# Altium footprint library ROBOCAM_1.PcbLib: 116 footprints (part 7 of 8)
Each footprint in its own frame and in the unit in brackets; x right, y up, seen from the top. Pads: shape width x height; smd on the part's side, far side on the other; paste and mask are expansions set on the pad; w line width, h text height; cw(c..) or ccw(c..) is an arc to the next point about the centre after c.
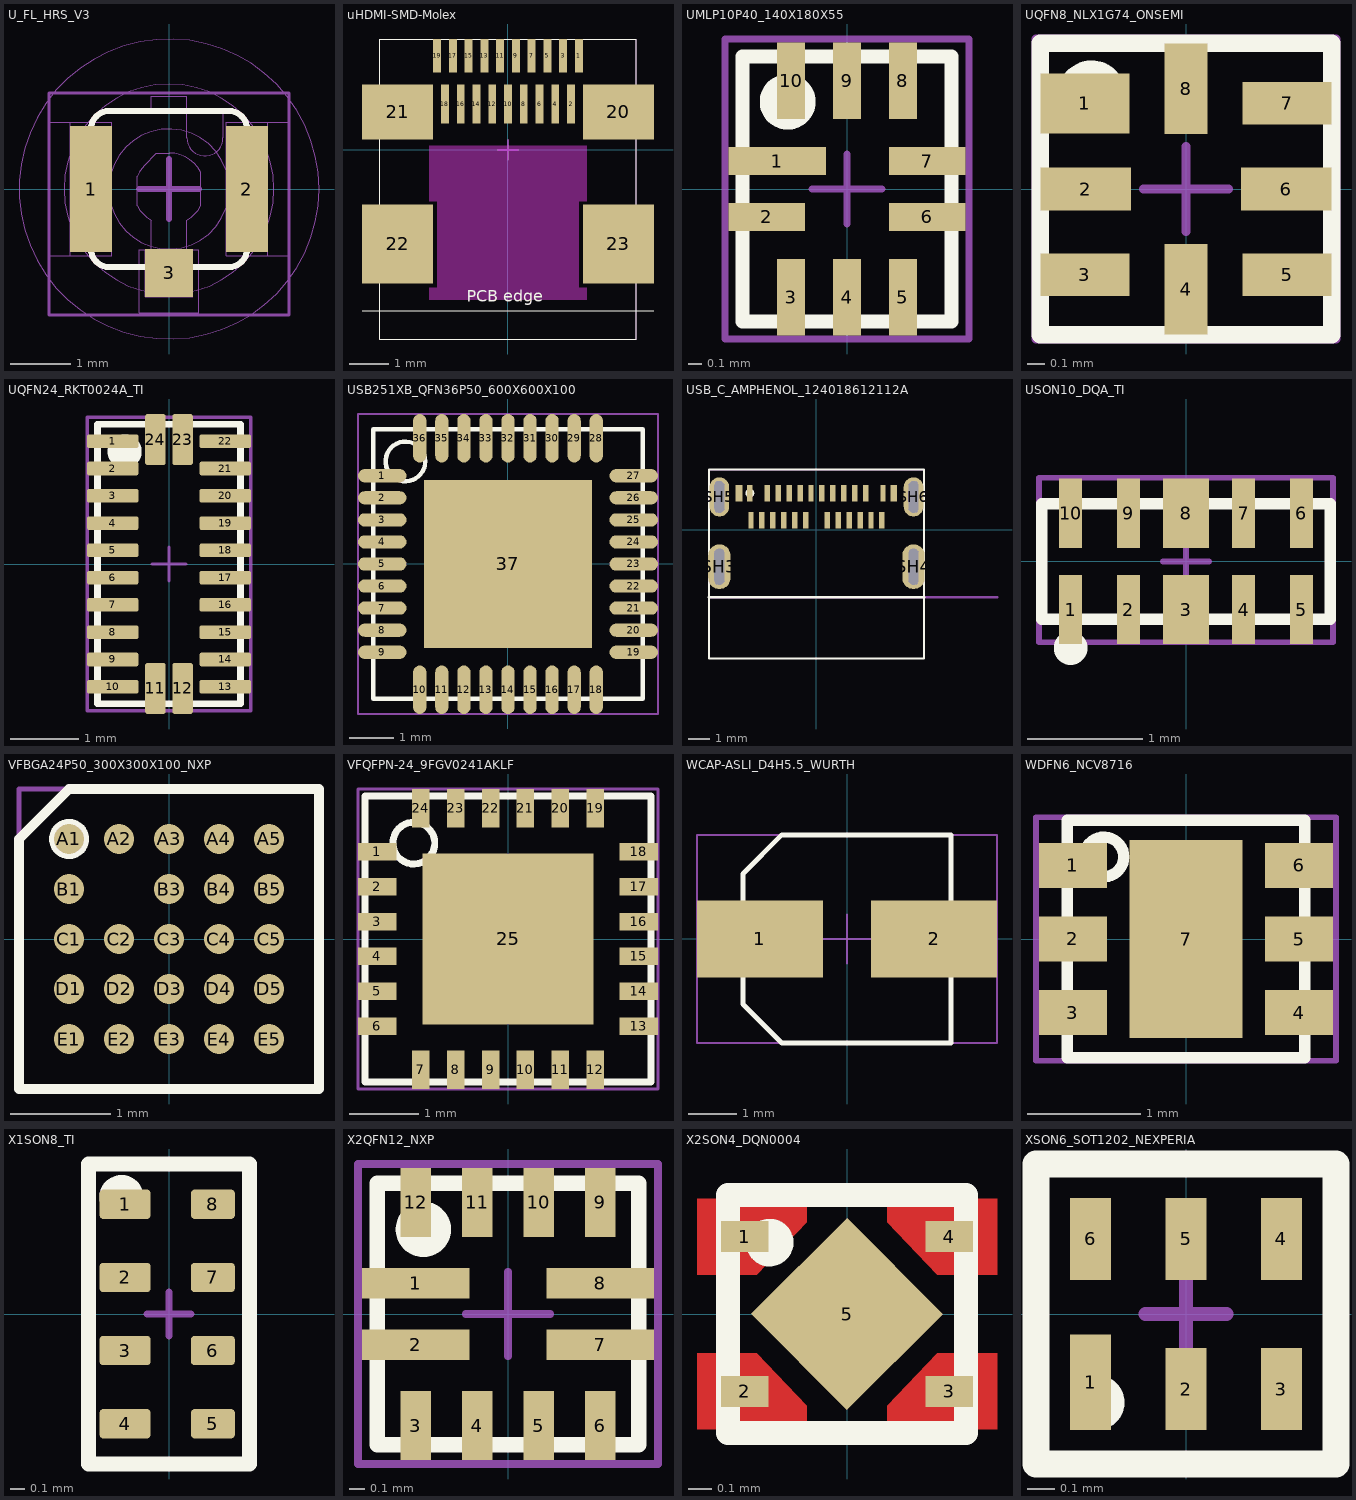
[diagram p6: the footprints below, top view; thin cyan lines are the x and y axes]

## U_FL_HRS_V3 [mm] "SMD, 3-Leads, Body 2.6x2.6mm"
height 1.25
pads (3):
  rect 0.7x2.1 smd mask+0.07: 1(-1.3,0)
  rect 0.7x2.1 smd: 2(1.3,0)
  rect 0.8x0.8 smd: 3(0,-1.4)
Top Overlay:
  lines w0.1: -1.3,-1 ccw(c-1,-1) -1,-1.3 1,-1.3 ccw(c1,-1) 1.3,-1 ; -1.3,0.95 -1.55,0.95 -1.55,-0.95 -1.3,-0.95 -1.3,1 cw(c-1,1) -1,1.3 1,1.3 cw(c1,1) 1.3,1 1.3,-0.95 1.55,-0.95 1.55,0.95 1.3,0.95 ; -0.3,-1.6 0.3,-1.6 0.3,-1.3 -0.3,-1.3 -0.3,-1.6
Mechanical 4:
  circle w0.01: c0,0 r2.5
  circle w0.02: c0,0 r1.75
  circle w0.02: c0,0 r1
  lines w0.02: -0.3,1.3 -0.3,1.55 0.3,1.55 0.3,1.3 ; -0.1,0 0.1,0 ; 0,-0.1 0,0.1 ; -1.3,-1 ccw(c-1,-1) -1,-1.3 ; -1.3,-1 ccw(c-1,-1) -1,-1.3 ; -1.3,-1 -1.3,-0.9 ; -1.3,-1 -1.3,-0.9 ; -1.3,-0.9 -1.5,-0.9 -1.5,0.9 -1.3,0.9 ; -1.3,-0.9 -1.2,-0.9 ccw(c-1.2,-0.75) -1.05,-0.75 -1.05,0.75 ccw(c-1.2,0.75) -1.2,0.9 -1.3,0.9 ; -1.3,0.9 -1.3,1 ; -1.3,0.9 -1.3,1 ; -1.3,1 cw(c-1,1) -1,1.3 ; -1.3,1 cw(c-1,1) -1,1.3 ; -1,-1.3 -0.3,-1.3 ; -1,-1.3 -0.3,-1.3 ; -1,1.3 1,1.3 ; -1,1.3 0.3,1.3 ; -0.95,-1.11 -2,-1.11 -2,1.11 -0.95,1.11 ; -0.95,-1.11 -1.65,-1.11 -1.65,1.1 -0.95,1.11 ; -0.95,-1.11 -0.95,1.11 ; -0.95,-1.11 -0.95,1.11 ; -0.3,-1.3 -0.3,-1.55 0.3,-1.55 0.3,-1.3 ; -0.3,-1.3 -0.3,-0.52 cw(c0,0) -0.53,-0.281 -0.53,0.21 cw(c0,0) -0.407,0.399 -0.21,0.6 0,0.6 cw(c0,0) 0.53,0.281 0.53,-0.281 cw(c0,0) 0.3,-0.52 0.3,-1.3 ; 0.3,-1.3 1,-1.3 ; 0.3,-1.3 1,-1.3 ; 0.3,1.3 0.3,0.85 ccw(c0.6,0.85) 0.9,0.85 0.9,1.3 1,1.3 ; 0.95,-1.11 0.95,1.11 ; 0.95,-1.11 0.95,1.11 ; 0.95,-1.11 1.65,-1.11 1.65,1.1 0.95,1.11 ; 0.95,-1.11 2,-1.11 2,1.11 0.95,1.11 ; 1,-1.3 ccw(c1,-1) 1.3,-1 ; 1,-1.3 ccw(c1,-1) 1.3,-1 ; 1,1.3 cw(c1,1) 1.3,1 ; 1,1.3 cw(c1,1) 1.3,1 ; 1.3,-1 1.3,-0.9 ; 1.3,-1 1.3,-0.9 ; 1.3,-0.9 1.5,-0.9 1.5,0.9 1.3,0.9 ; 1.3,-0.9 1.2,-0.9 cw(c1.2,-0.75) 1.05,-0.75 1.05,0.75 cw(c1.2,0.75) 1.2,0.9 1.3,0.9 ; 1.3,0.9 1.3,1 ; 1.3,0.9 1.3,1 ; -0.5,-2.06 -0.5,-1.01 0.5,-1.01 0.5,-2.06 -0.5,-2.06 ; -0.4,-1.8 -0.4,-1.01 0.4,-1.01 0.4,-1.8 -0.4,-1.8
  text "Open as many layers as possible." at -0.7,0.219 h0.1
Top Courtyard:
  lines w0.05: -2,-2.1 -2,1.6 2,1.6 2,-2.1 -2,-2.1
  lines w0.1: -0.5,0 0.5,0 ; 0,-0.5 0,0.5
Top Designator:
  text ".Designator" at -7.618,-0.508 h1.52
3D body "U_FL-R-SMT-1.stp": height 1.3, standoff 0.05, extent -1.499,-1.55 1.501,1.55

## uHDMI-SMD-Molex [mm] "Micro-HDMI connector, surface mount"
height 2.9
pads (23):
  rect 0.2x0.85 smd paste+0 mask+0.05: 1(1.8,2.388) 3(1.4,2.388) 5(1,2.388) 7(0.6,2.388) 9(0.2,2.388) 11(-0.2,2.388) 13(-0.6,2.388) 15(-1,2.388) 17(-1.4,2.388) 19(-1.8,2.388)
  rect 0.2x1 smd paste+0 mask+0.05: 2(1.6,1.163) 4(1.2,1.163) 6(0.8,1.163) 8(0.4,1.163) 10(0,1.163) 12(-0.4,1.163) 14(-0.8,1.163) 16(-1.2,1.163) 18(-1.6,1.163)
  rect 1.8x1.4 smd paste-0.1 mask+0.05: 20(2.8,0.963) 21(-2.8,0.963)
  rect 1.8x2 smd paste-0.1 mask+0.05: 22(-2.8,-2.387) 23(2.8,-2.387)
Top Overlay:
  lines w0.02: -3.7,-4.087 3.7,-4.087 ; -3.25,-4.8 3.25,-4.8 3.25,2.813 -3.25,2.813 -3.25,-4.8
  text "PCB edge" at -1.05,-3.95 h0.5
Keep-Out Layer:
  region: -2,-3.8 -2,-3.5 -1.8,-3.5 -1.8,-1.3 -2,-1.3 -2,0.1 2,0.1 2,-1.3 1.8,-1.3 1.8,-3.5 2,-3.5 2,-3.8
Top Courtyard:
  lines w0.02: -3.25,-4.8 3.25,-4.8 3.25,2.813 -3.25,2.813 -3.25,-4.8
  lines w0.05: -0.25,0 0.25,0 ; 0,-0.25 0,0.25
Top Designator:
  text ".Designator" at 7.618,-0.466 h1.52
3D body "467650001.stp": height 2.97, standoff 0, extent -3.25,-4.8 3.25,2.7

## UMLP10P40_140X180X55 [mm] "UMLP 10 pin pitch 0.4"
height 0.55
pads (10):
  rect 0.7x0.2 smd paste+0 mask+0.05: 1(-0.5,0.2)
  rect 0.55x0.2 smd paste+0 mask+0.05: 2(-0.575,-0.2) 6(0.575,-0.2) 7(0.575,0.2)
  rect 0.2x0.55 smd paste+0 mask+0.05: 3(-0.4,-0.775) 4(0,-0.775) 5(0.4,-0.775) 8(0.4,0.775) 9(0,0.775) 10(-0.4,0.775)
Top Overlay:
  circle w0.2: c-0.425,0.625 r0.1
  lines w0.1: -0.75,-0.95 0.75,-0.95 0.75,0.95 -0.75,0.95 -0.75,-0.95
Top Courtyard:
  lines w0.05: -0.25,0 0.25,0 ; 0,-0.25 0,0.25 ; -0.875,-1.075 0.875,-1.075 0.875,1.075 -0.875,1.075 -0.875,-1.075
Top Designator:
  text ".Designator" at -7.618,-0.508 h1.52
3D body: height 0.51, standoff 0.4, extent -0.65,0.55 -0.35,0.85
3D body "FSUSB42UMX.stp": height 0.55, standoff 0, extent -0.75,-0.95 0.75,0.95

## UQFN8_NLX1G74_ONSEMI [mm] "UQFN8"
height 0.6
pads (8):
  rect 0.52x0.35 smd paste+0 mask+0.05: 1(-0.59,0.5)
  rect 0.53x0.25 smd paste+0 mask+0.05: 2(-0.585,0) 6(0.585,0)
  rect 0.52x0.25 smd paste+0 mask+0.05: 3(-0.59,-0.5) 5(0.59,-0.5) 7(0.59,0.5)
  rect 0.25x0.53 smd paste+0 mask+0.05: 4(0,-0.585) 8(0,0.585)
Top Overlay:
  circle w0.2: c-0.55,0.55 r0.1
  lines w0.1: -0.85,-0.85 -0.85,0.85 0.85,0.85 0.85,-0.85 -0.85,-0.85
Top Courtyard:
  lines w0.05: -0.25,0 0.25,0 ; 0,-0.25 0,0.25 ; -0.875,-0.875 0.875,-0.875 0.875,0.875 -0.875,0.875 -0.875,-0.875
Top Designator:
  text ".Designator" at 7.618,0.508 h1.52
3D body "NLX1G74MUTCG.stp": height 0.7, standoff 0, extent -0.8,-0.8 0.8,0.8
3D body: height 0.71, standoff 0.6, extent -0.625,0.3 -0.325,0.6

## UQFN24_RKT0024A_TI [mm] "UQFN24"
height 0.55
pads (24):
  rrect25% 0.75x0.2 smd paste+0 mask+0.05: 1(-0.825,1.8) 2(-0.825,1.4) 3(-0.825,1) 4(-0.825,0.6) 5(-0.825,0.2) 6(-0.825,-0.2) 7(-0.825,-0.6) 8(-0.825,-1) 9(-0.825,-1.4) 10(-0.825,-1.8) 13(0.825,-1.8) 14(0.825,-1.4) 15(0.825,-1) 16(0.825,-0.6) 17(0.825,-0.2) 18(0.825,0.2) 19(0.825,0.6) 20(0.825,1) 21(0.825,1.4) 22(0.825,1.8)
  rrect25% 0.3x0.75 smd paste-0.06 mask-0.05: 11(-0.2,-1.825) 12(0.2,-1.825) 23(0.2,1.825) 24(-0.2,1.825)
Top Overlay:
  circle w0.3: c-0.65,1.65 r0.1
  lines w0.1: -1.05,-2.05 1.05,-2.05 1.05,2.05 -1.05,2.05 -1.05,-2.05
Top Courtyard:
  lines w0.05: -0.25,0 0.25,0 ; 0,-0.25 0,0.25 ; -1.2,-2.15 1.2,-2.15 1.2,2.15 -1.2,2.15 -1.2,-2.15
Top Designator:
  text ".Designator" at -7.618,-0.508 h1.52
3D body "TPD12S016RKTR.STEP": height 0.55, standoff 0, extent -1,-2 1,2

## USB251XB_QFN36P50_600X600X100 [mm] "SQFN36"
height 1
pads (37):
  oval 1.1x0.3 smd paste+0 mask+0.05: 1(-2.85,2) 2(-2.85,1.5) 3(-2.85,1) 4(-2.85,0.5) 5(-2.85,0) 6(-2.85,-0.5) 7(-2.85,-1) 8(-2.85,-1.5) 9(-2.85,-2) 19(2.85,-2) 20(2.85,-1.5) 21(2.85,-1) 22(2.85,-0.5) 23(2.85,0) 24(2.85,0.5) 25(2.85,1) 26(2.85,1.5) 27(2.85,2)
  oval 0.3x1.1 smd paste+0 mask+0.05: 10(-2,-2.85) 11(-1.5,-2.85) 12(-1,-2.85) 13(-0.5,-2.85) 14(0,-2.85) 15(0.5,-2.85) 16(1,-2.85) 17(1.5,-2.85) 18(2,-2.85) 28(2,2.85) 29(1.5,2.85) 30(1,2.85) 31(0.5,2.85) 32(0,2.85) 33(-0.5,2.85) 34(-1,2.85) 35(-1.5,2.85) 36(-2,2.85)
  rect 3.8x3.8 smd paste-0.5 mask+0.05: 37(0,0)
Top Overlay:
  circle w0.1: c-2.325,2.325 r0.45
  lines w0.1: -3.05,-3.05 3.05,-3.05 3.05,3.05 -3.05,3.05 -3.05,-3.05
Top Courtyard:
  lines w0.05: -0.4,0 0.4,0 ; 0,-0.4 0,0.4 ; -3.4,-3.4 3.4,-3.4 3.4,3.4 -3.4,3.4 -3.4,-3.4
Top Designator:
  text ".Designator" at 7.618,0.508 h1.52
3D body "USB2513B_M2.stp": height 1, standoff 0, extent -3.05,-3.05 3.05,3.05
3D body: height 1.01, standoff 0.9, extent -2.65,1.825 -1.85,2.625

## USB_C_AMPHENOL_124018612112A [mm] "USB3.2 GEN1, Type C, Top mount, CH 1.50mm, Dual Row SMT, IPX8"
height 3.13
pads (30):
  rect 0.25x0.75 smd paste+0 mask+0.05: A1(-3.05,1.687) A2(-2.25,1.687) A3(-1.75,1.687) A4(-1.25,1.687) A5(-0.75,1.687) A6(-0.25,1.687) A7(0.25,1.687) A8(0.75,1.687) A9(1.25,1.687) A10(1.75,1.687) A11(2.25,1.687) A12(3.05,1.687) B1(3,0.437) B2(2.5,0.437) B3(2,0.437) B4(1.5,0.437) B5(1,0.437) B6(0.5,0.437) B7(-0.5,0.437) B8(-1,0.437) B9(-1.5,0.437) B10(-2,0.437) B11(-2.5,0.437) B12(-3,0.437)
  rect 0.3x0.75 smd paste+0 mask+0.05: SH1(-3.55,1.687) SH2(3.55,1.687)
  oval 1.025x2.05 hole 0.45 slot 1.65 at 90 deg paste-2539.97 mask+0.125: SH3(-4.45,-1.687)
  oval 1.025x2.05 hole 0.45 slot 1.65 at 90 deg mask+0.125: SH4(4.45,-1.687)
  oval 0.9x1.8 hole 0.45 slot 1.45 at 90 deg mask+0.125: SH5(-4.45,1.512) SH6(4.45,1.512)
Top Overlay:
  circle w0.2: c-3.05,1.687 r0.1
  lines w0.1: -4.92,-5.888 4.93,-5.888 4.93,2.762 -4.92,2.762 -4.92,-5.888
  lines w0.127: -4.92,-3.087 4.93,-3.087
Mechanical 2:
  lines w0.127: -4.9,-3.1 8.275,-3.087
  text "PCB EDGE" at 5.1,-2.9 h0.41
Top Courtyard:
  lines w0.05: -4.92,-5.888 4.93,-5.888 4.93,2.763 -4.92,2.763 -4.92,-5.888
Top Designator:
  text ".Designator" at 9.243,-1.055 h1.52
3D body "124018612112A--3DModel-STEP-533217.STEP": height 3.53, standoff -0.53, extent -4.92,-5.888 4.93,2.762

## USON10_DQA_TI [mm] "USON10"
height 0.55
pads (10):
  rect 0.2x0.6 smd paste+0 mask+0.05: 1(-1,-0.417) 2(-0.5,-0.417) 4(0.5,-0.417) 5(1,-0.417) 6(1,0.417) 7(0.5,0.417) 9(-0.5,0.417) 10(-1,0.417)
  rect 0.4x0.6 smd paste+0 mask+0.05: 3(0,-0.417) 8(0,0.417)
Top Overlay:
  circle w0.254: c-1,-0.75 r0.019
  lines w0.1: -1.25,-0.5 -1.25,0.5 1.25,0.5 1.25,-0.5 -1.25,-0.5
Top Courtyard:
  lines w0.05: -1.25,0.725 -1.175,0.725 ; -0.2,0 0.2,0 ; 0,-0.2 0,0.2 ; -1.275,-0.7 1.275,-0.7 1.275,0.725 -1.275,0.725 -1.275,-0.7
Top Designator:
  text ".Designator" at -7.618,-0.572 h1.52
3D body "TPD4E05U06DQAR.stp": height 0.55, standoff 0.02, extent -1.25,-0.5 1.25,0.5

## VFBGA24P50_300X300X100_NXP [mm]
height 0.4
pads (24):
  round 0.3 smd paste-2539.97 mask-2539.97: A1(-1,1) A2(-0.5,1) A3(0,1) A4(0.5,1) A5(1,1) B1(-1,0.5) B3(0,0.5) B4(0.5,0.5) B5(1,0.5) C1(-1,0) C2(-0.5,0) C3(0,0) C4(0.5,0) C5(1,0) D1(-1,-0.5) D2(-0.5,-0.5) D3(0,-0.5) D4(0.5,-0.5) D5(1,-0.5) E1(-1,-1) E2(-0.5,-1) E3(0,-1) E4(0.5,-1) E5(1,-1)
Top Overlay:
  circle w0.2: c-1,1 r0.1
  lines w0.1: -1.5,-1.5 -1.5,1 -1,1.5 1.5,1.5 1.5,-1.5 -1.5,-1.5
Top Paste:
  circle w0.15: c-0.5,-1 r0.075
  circle w0.15: c-1,1 r0.075
  circle w0.15: c1,0.5 r0.075
  circle w0.15: c0,0.5 r0.075
  circle w0.15: c-0.5,1 r0.075
  circle w0.15: c0.5,0.5 r0.075
  circle w0.15: c0.5,-0.5 r0.075
  circle w0.15: c0.5,1 r0.075
  circle w0.15: c1,1 r0.075
  circle w0.15: c-1,-1 r0.075
  circle w0.15: c0,-1 r0.075
  circle w0.15: c1,0 r0.075
  circle w0.15: c0,0 r0.075
  circle w0.15: c-1,0.5 r0.075
  circle w0.15: c0,-0.5 r0.075
  circle w0.15: c1,-0.5 r0.075
  circle w0.15: c1,-1 r0.075
  circle w0.15: c0.5,-1 r0.075
  circle w0.15: c-0.5,-0.5 r0.075
  circle w0.15: c0,1 r0.075
  circle w0.15: c0.5,0 r0.075
  circle w0.15: c-1,0 r0.075
  circle w0.15: c-1,-0.5 r0.075
  circle w0.15: c-0.5,0 r0.075
Top Solder:
  circle w0.2: c-0.5,-1 r0.1
  circle w0.2: c-1,1 r0.1
  circle w0.2: c1,0.5 r0.1
  circle w0.2: c0,0.5 r0.1
  circle w0.2: c-0.5,1 r0.1
  circle w0.2: c0.5,0.5 r0.1
  circle w0.2: c0.5,-0.5 r0.1
  circle w0.2: c0.5,1 r0.1
  circle w0.2: c1,1 r0.1
  circle w0.2: c-1,-1 r0.1
  circle w0.2: c0,-1 r0.1
  circle w0.2: c1,0 r0.1
  circle w0.2: c0,0 r0.1
  circle w0.2: c-1,0.5 r0.1
  circle w0.2: c0,-0.5 r0.1
  circle w0.2: c1,-0.5 r0.1
  circle w0.2: c1,-1 r0.1
  circle w0.2: c0.5,-1 r0.1
  circle w0.2: c-0.5,-0.5 r0.1
  circle w0.2: c0,1 r0.1
  circle w0.2: c0.5,0 r0.1
  circle w0.2: c-1,0 r0.1
  circle w0.2: c-1,-0.5 r0.1
  circle w0.2: c-0.5,0 r0.1
Top Courtyard:
  lines w0.05: -1.5,-1.5 -1.5,1.5 1.5,1.5 1.5,-1.5 -1.5,-1.5
Top Designator:
  text ".Designator" at -7.618,-0.508 h1.52
3D body: height 0.95, standoff 0.85, extent -1.315,0.915 -0.915,1.315
3D body "PCAL6416AEVJ.stp": height 1, standoff 0, extent -1.5,-1.5 1.5,1.5

## VFQFPN-24_9FGV0241AKLF [mm] "VFQFPN-24"
height 0.9
pads (25):
  rect 0.55x0.25 smd paste+0 mask+0.05: 1(-1.875,1.25) 2(-1.875,0.75) 3(-1.875,0.25) 4(-1.875,-0.25) 5(-1.875,-0.75) 6(-1.875,-1.25) 13(1.875,-1.25) 14(1.875,-0.75) 15(1.875,-0.25) 16(1.875,0.25) 17(1.875,0.75) 18(1.875,1.25)
  rect 0.25x0.55 smd paste+0 mask+0.05: 7(-1.25,-1.875) 8(-0.75,-1.875) 9(-0.25,-1.875) 10(0.25,-1.875) 11(0.75,-1.875) 12(1.25,-1.875) 19(1.25,1.875) 20(0.75,1.875) 21(0.25,1.875) 22(-0.25,1.875) 23(-0.75,1.875) 24(-1.25,1.875)
  rect 2.45x2.45 smd paste-0.129 mask+0.07: 25(0,0)
Top Overlay:
  circle w0.1: c-1.35,1.375 r0.3
  lines w0.1: -2.05,-2.05 -2.05,2.05 2.05,2.05 2.05,-2.05 -2.05,-2.05
Top Courtyard:
  lines w0.05: -0.325,0 0.325,0 ; 0,-0.325 0,0.325 ; -2.15,-2.15 -2.15,2.15 2.15,2.15 2.15,-2.15 -2.15,-2.15
Top Designator:
  text ".Designator" at 7.618,0.508 h1.52
3D body: height 0.99, standoff 0.89, extent -1.75,1.25 -1.25,1.75
3D body "BD8P250MUF-CE2.stp": height 1, standoff 0, extent -2.05,-2.05 2.05,2.05

## WCAP-ASLI_D4H5.5_WURTH [mm] "Radial 6.6 x 6.6 x 5.5mm aluminium capacitor"
height 5.5
pads (2):
  rect 2.6x1.6 smd: 1(-1.8,0) 2(1.8,0)
Top Overlay:
  lines w0.1: -2.15,-1.35 -2.15,1.35 -1.35,2.15 2.15,2.15 2.15,-2.15 -1.35,-2.15 -2.15,-1.35
  lines w0.2: -1.812,0 -0.812,0 ; -1.312,-0.5 -1.312,0.5
Top Courtyard:
  lines w0.05: -0.5,0 0.5,0 ; 0,-0.5 0,0.5 ; -3.1,-2.15 -3.1,2.15 3.1,2.15 3.1,-2.15 -3.1,-2.15
Top Designator:
  text ".Designator" at 7.618,0.508 h1.52
3D body "4x5.5x1.stp": height 5.5, standoff 0, extent -2.5,-2.15 2.5,2.15

## WDFN6_NCV8716 [mm] "WDFN6 2 x 2 x 0.8mm for NCV8716MT33TBG"
height 0.8
pads (7):
  rect 0.6x0.4 smd paste+0 mask+0.05: 1(-1,0.65) 2(-1,0) 3(-1,-0.65) 4(1,-0.65) 5(1,0) 6(1,0.65)
  rect 1x1.75 smd paste-0.1 mask+0.05: 7(0,0)
Top Overlay:
  circle w0.1: c-0.725,0.725 r0.175
  lines w0.1: -1.05,-1.05 -1.05,1.05 1.05,1.05 1.05,-1.05 -1.05,-1.05
Top Courtyard:
  lines w0.05: -0.275,0 0.275,0 ; 0,-0.275 0,0.275 ; -1.325,-1.075 -1.325,1.075 1.325,1.075 1.325,-1.075 -1.325,-1.075
Top Designator:
  text ".Designator" at -7.618,-0.508 h1.52
3D body "NCV8716MT33TBG.STEP": height 0.8, standoff 0, extent -1,-1 1,1

## X1SON8_TI [mm] "SON8 1x2 mm Pitch 0.5"
height 0.5
pads (8):
  rrect25% 0.35x0.2 smd paste+0 mask+0.05: 1(-0.3,0.75) 2(-0.3,0.25) 3(-0.3,-0.25) 4(-0.3,-0.75)
  rrect25% 0.3x0.2 smd paste+0 mask+0.05: 5(0.3,-0.75) 6(0.3,-0.25) 7(0.3,0.25) 8(0.3,0.75)
Top Overlay:
  circle w0.2: c-0.325,0.8 r0.05
  lines w0.1: -0.55,-1.025 0.55,-1.025 0.55,1.025 -0.55,1.025 -0.55,-1.025
Top Courtyard:
  lines w0.05: -0.15,0 0.15,0 ; 0,-0.15 0,0.15 ; -0.55,-1.025 -0.55,1.025 0.55,1.025 0.55,-1.025 -0.55,-1.025
Top Designator:
  text ".Designator" at -7.618,-0.508 h1.52
3D body "TPS3895ADRYR.stp": height 0.7, standoff 0, extent -0.5,-0.975 0.5,0.475
3D body: height 0.7, standoff 0.69, extent -0.45,0.6 -0.15,0.9
3D body "TPS3895ADRYR.stp": height 0.7, standoff 0, extent -0.5,-0.475 0.5,0.975

## X2QFN12_NXP [mm] "X2QFN12 NXP"
height 0.4
pads (12):
  rect 0.7x0.2 smd paste+0 mask+0.05: 1(-0.6,0.2) 2(-0.6,-0.2) 7(0.6,-0.2) 8(0.6,0.2)
  rect 0.2x0.45 smd paste+0 mask+0.05: 3(-0.6,-0.725) 4(-0.2,-0.725) 5(0.2,-0.725) 6(0.6,-0.725) 9(0.6,0.725) 10(0.2,0.725) 11(-0.2,0.725) 12(-0.6,0.725)
Top Overlay:
  lines w0.1: -0.85,-0.85 -0.85,0.85 0.85,0.85 0.85,-0.85 -0.85,-0.85
  lines w0.2: -0.63,0.55 ccw(c-0.55,0.55) -0.47,0.55 ccw(c-0.55,0.55) -0.63,0.55
Top Courtyard:
  lines w0.05: -0.275,0 0.275,0 ; 0,-0.275 0,0.275 ; -0.975,-0.975 -0.975,0.975 0.975,0.975 0.975,-0.975 -0.975,-0.975
Top Designator:
  text ".Designator" at -7.618,-0.508 h1.52
3D body "PTN5150AHXMP.stp": height 0.5, standoff 0, extent -0.8,-0.8 0.8,0.8
3D body: height 0.51, standoff 0.4, extent -0.675,0.4 -0.375,0.7

## X2SON4_DQN0004 [mm] "X2SON 1.05 x 1.05 x 0.4mm"
height 0.4
pads (5):
  rect 0.2x0.13 smd paste-1 mask+0: 1(-0.43,0.325) 2(-0.43,-0.325) 3(0.43,-0.325) 4(0.43,0.325)
  rect 0.57x0.57 smd rot 135 paste-0.06 mask-0.05: 5(0,0)
Top Layer:
  region: -0.63,0.485 -0.17,0.485 -0.17,0.385 -0.38,0.165 -0.63,0.165
  region: 0.63,-0.485 0.17,-0.485 0.17,-0.385 0.38,-0.165 0.63,-0.165
  region: 0.63,0.485 0.17,0.485 0.17,0.385 0.38,0.165 0.63,0.165
  region: -0.63,-0.485 -0.17,-0.485 -0.17,-0.385 -0.38,-0.165 -0.63,-0.165
Top Overlay:
  circle w0.1: c-0.325,0.3 r0.05
  lines w0.1: -0.5,-0.5 0.5,-0.5 0.5,0.5 -0.5,0.5 -0.5,-0.5
Top Courtyard:
  lines w0.05: -0.175,0 0.175,0 ; 0,-0.2 0,0.2 ; -0.5,-0.5 0.5,-0.5 0.5,0.5 -0.5,0.5 -0.5,-0.5
Top Designator:
  text ".Designator" at 7.618,0.508 h1.52
3D body "TPS7A2015PDQNR.STEP": height 0.4, standoff 0, extent -0.5,-0.5 0.5,0.5
3D body: height 0.4, standoff 0.3, extent -0.35,0.15 -0.15,0.35

## XSON6_SOT1202_NEXPERIA [mm]
height 0.35
pads (6):
  rect 0.15x0.35 smd paste+0 mask+0.05: 1(-0.35,-0.25)
  rect 0.15x0.3 smd paste+0 mask+0.05: 2(0,-0.275) 3(0.35,-0.275) 4(0.35,0.275) 5(0,0.275) 6(-0.35,0.275)
Top Overlay:
  lines w0.1: -0.55,-0.55 0.55,-0.55 0.55,0.55 -0.55,0.55 -0.55,-0.55 ; -0.325,-0.375 ccw(c-0.325,-0.325) -0.325,-0.275 ccw(c-0.325,-0.325) -0.325,-0.375
Top Courtyard:
  lines w0.05: -0.15,0 0.15,0 ; 0,-0.15 0,0.15 ; -0.55,-0.55 -0.55,0.55 0.55,0.55 0.55,-0.55 -0.55,-0.55
Top Designator:
  text ".Designator" at 7.618,0.508 h1.52
3D body: height 0.33, standoff 0.23, extent -0.45,-0.4 -0.25,-0.2
3D body "XSON6_SOT1202_Nexperia.step": height 0.32, standoff 0, extent -0.5,-0.5 0.5,0.5